# Altium footprint library PTS526SK15SMTR2LFS.PcbLib: 1 footprints
Each footprint in its own frame and in the unit in brackets; x right, y up, seen from the top. Pads: shape width x height; smd on the part's side, far side on the other; paste and mask are expansions set on the pad; w line width, h text height; cw(c..) or ccw(c..) is an arc to the next point about the centre after c.
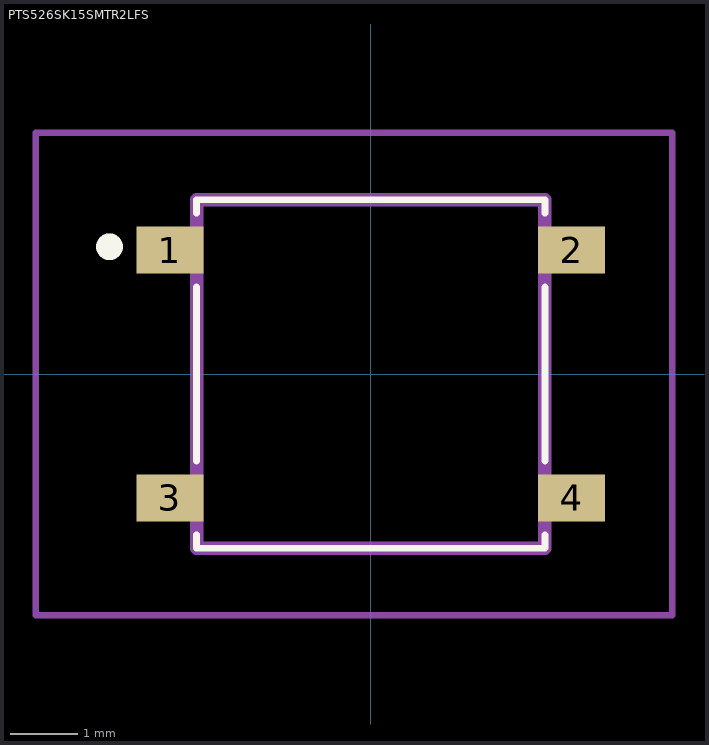
[diagram p0: the footprint, top view; thin cyan lines are the x and y axes]

## PTS526SK15SMTR2LFS [mm]
pads (4):
  rect 1x0.7 smd: 1(-3,1.85) 2(3,1.85) 3(-3,-1.85) 4(3,-1.85)
Top Overlay:
  lines w0.1: -2.6,-2.4 -2.6,-2.6 2.6,-2.6 2.6,-2.4 ; -2.6,-1.3 -2.6,1.3 ; -2.6,2.4 -2.6,2.6 2.6,2.6 2.6,2.4 ; 2.6,-1.3 2.6,1.3
  lines w0.2: -4,1.9 -4,1.9 ; -4,1.9 ccw(c-3.9,1.9) -3.8,1.9 ; -4,1.9 cw(c-3.9,1.9) -3.8,1.9 ; -3.8,1.9 -3.8,1.9
Mechanical 15:
  lines w0.2: -2.6,-2.6 2.6,-2.6 2.6,2.6 -2.6,2.6 -2.6,-2.6
Mechanical 20:
  lines w0.1: -5,-3.6 4.5,-3.6 4.5,3.6 -5,3.6 -5,-3.6